# Altium schematic symbol library LED.SchLib: 1 symbol
Pins are listed as number, name and electrical type; pins without a type are passive.

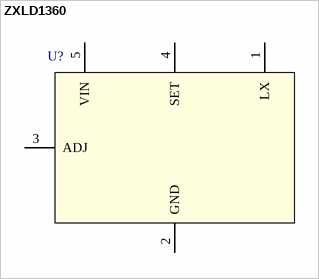
[diagram p0: symbol ZXLD1360]

## ZXLD1360
designator U?  (value not drawn)
ZXLD1360
pins: 1 LX (power), 2 GND (power), 3 ADJ (power), 4 SET (power), 5 VIN (power)